# EAGLE library part SOCKET-34 (library con-3m-skt-header)
34 pin PCB Socket (3m 85xx/51xx)
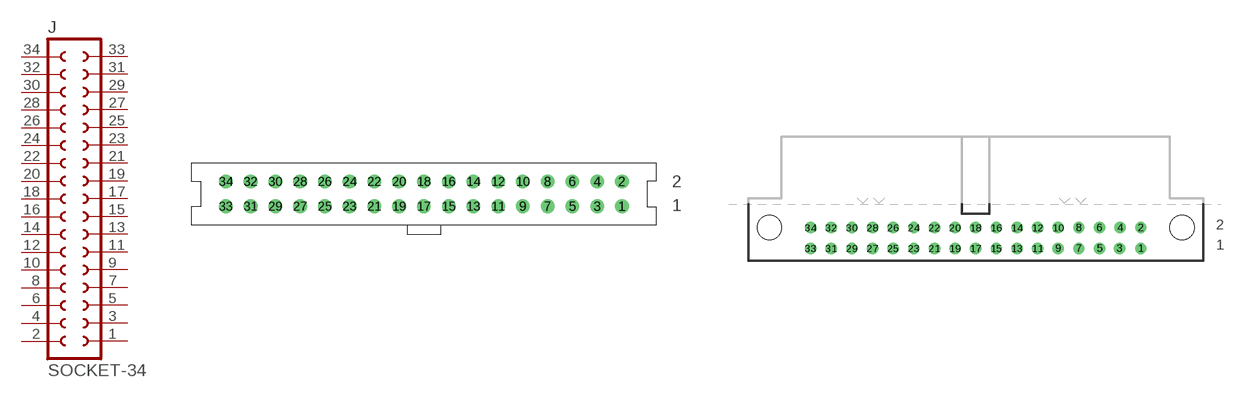
[diagram p5: symbol with the pads of S34V; footprints S34V, S34RA]

Designator prefix J

## SOCKET-34V  [S34V]
1  1  pas
2  2  pas
3  3  pas
4  4  pas
5  5  pas
6  6  pas
7  7  pas
8  8  pas
9  9  pas
10  10  pas
11  11  pas
12  12  pas
13  13  pas
14  14  pas
15  15  pas
16  16  pas
17  17  pas
18  18  pas
19  19  pas
20  20  pas
21  21  pas
22  22  pas
23  23  pas
24  24  pas
25  25  pas
26  26  pas
27  27  pas
28  28  pas
29  29  pas
30  30  pas
31  31  pas
32  32  pas
33  33  pas
34  34  pas

## SOCKET-34RA  [S34RA]
Pads as for S34V

## Footprint S34V (pad centres in mm)
34 pin Vertical PCB Socket 8534-xxxxx
drill 0.8 pad 1.4 round: 1 20.32,-1.27; 2 20.32,1.27; 3 17.78,-1.27; 4 17.78,1.27; 5 15.24,-1.27; 6 15.24,1.27; 7 12.7,-1.27; 8 12.7,1.27; 9 10.16,-1.27; 10 10.16,1.27; 11 7.62,-1.27; 12 7.62,1.27; 13 5.08,-1.27; 14 5.08,1.27; 15 2.54,-1.27; 16 2.54,1.27; 17 0,-1.27; 18 0,1.27; 19 -2.54,-1.27; 20 -2.54,1.27; 21 -5.08,-1.27; 22 -5.08,1.27; 23 -7.62,-1.27; 24 -7.62,1.27; 25 -10.16,-1.27; 26 -10.16,1.27; 27 -12.7,-1.27; 28 -12.7,1.27; 29 -15.24,-1.27; 30 -15.24,1.27; 31 -17.78,-1.27; 32 -17.78,1.27; 33 -20.32,-1.27; 34 -20.32,1.27

## Footprint S34RA (pad centres in mm)
34 pin R/A PCB socket 3M 5134-xxxxx
drill 0.8 pad 1.4 round: 1 20.32,-5.44; 2 20.32,-2.9; 3 17.7,-5.44; 4 17.78,-2.9; 5 15.24,-5.44; 6 15.24,-2.9; 7 12.7,-5.44; 8 12.7,-2.9; 9 10.16,-5.44; 10 10.16,-2.9; 11 7.62,-5.44; 12 7.62,-2.9; 13 5.08,-5.44; 14 5.08,-2.9; 15 2.54,-5.44; 16 2.54,-2.9; 17 0,-5.44; 18 0,-2.9; 19 -2.54,-5.44; 20 -2.54,-2.9; 21 -5.08,-5.44; 22 -5.08,-2.9; 23 -7.62,-5.44; 24 -7.62,-2.9; 25 -10.16,-5.44; 26 -10.16,-2.9; 27 -12.7,-5.44; 28 -12.7,-2.9; 29 -15.24,-5.44; 30 -15.24,-2.9; 31 -17.78,-5.44; 32 -17.78,-2.9; 33 -20.32,-5.44; 34 -20.32,-2.9
hole 3 at -25.39,-2.9
hole 3 at 25.39,-2.9